# EAGLE library part 3PDT (library Controller)
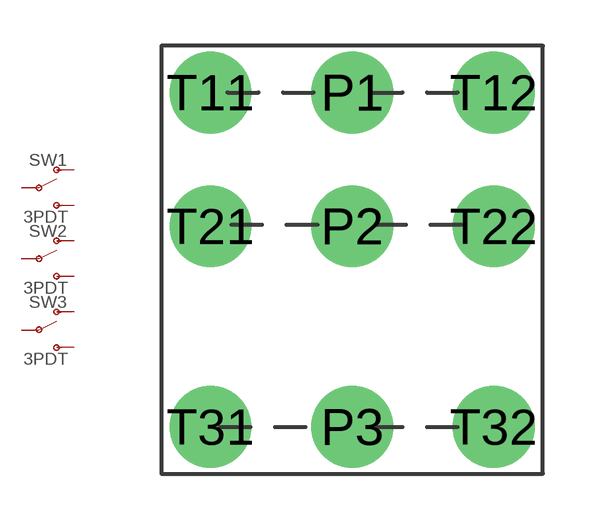
[diagram p7: symbol with the pads of 3PDT; footprint 3PDT]

Designator prefix SW; gates 1=TOGGLE 2=TOGGLE 3=TOGGLE

## 3PDT (DIGIKEY_PART_NUMBER: CWI359-ND)  [3PDT]
P1  1:P  pas
P2  2:P  pas
P3  3:P  pas
T11  1:O  pas
T12  1:S  pas
T21  2:O  pas
T22  2:S  pas
T31  3:O  pas
T32  3:S  pas

## Footprint 3PDT (pad centres in mm)
drill 1.778: P1 0,5.461; P2 0,1.092; P3 0,-5.461; T11 -4.623,5.461; T12 4.623,5.461; T21 -4.623,1.092; T22 4.623,1.092; T31 -4.623,-5.461; T32 4.623,-5.461